# Altium schematic symbol library Schlib.SchLib: 7 symbols
Pins are listed as number, name and electrical type; pins without a type are passive.

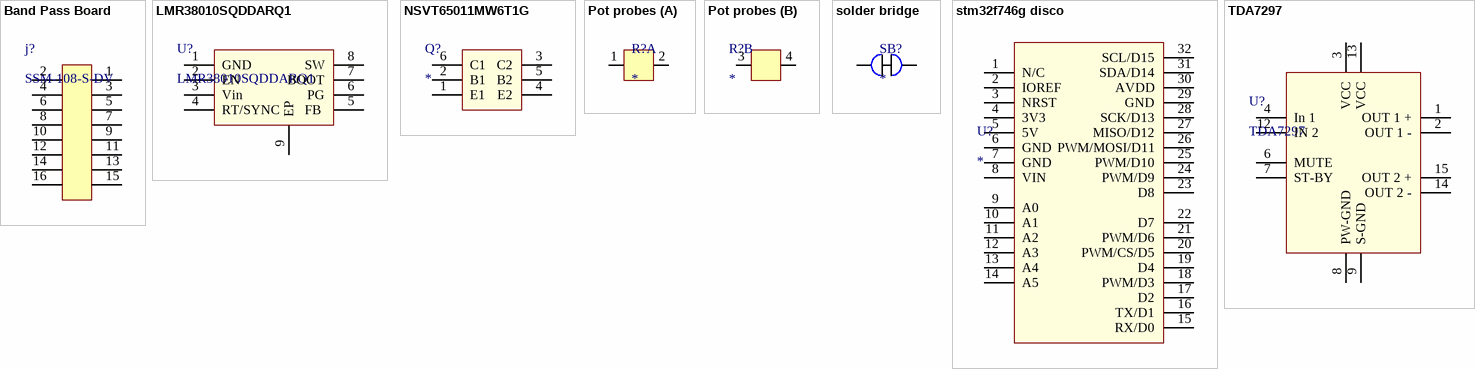
[diagram p0: symbols Band Pass Board to TDA7297]

## Band Pass Board
designator j?, comment SSM-108-S-DV
footprint Band Pass Board
pins: 1 K, 2 K, 3 K, 4 K, 5 K, 6 K, 7 K, 8 K, 9 K, 10 K, 11 K, 12 K, 13 K, 14 K, 15, 16

## LMR38010SQDDARQ1
designator U?
footprint LMR38010SQDDARQ1
pins: 1 GND, 2 EN, 3 Vin, 4 RT/SYNC, 5 FB , 6 PG, 7 BOOT, 8 SW, 9 EP

## NSVT65011MW6T1G
designator Q?
footprint NSVT65011MW6T1G
pins: 1 E1, 2 B1, 3 C2, 4 E2, 5 B2, 6 C1

## Pot probes
designator R?
footprint Pot probe
part A pins: 1, 2
part B pins: 3, 4

## solder bridge
designator SB?
footprint solder bridge
pins: 1, 2

## stm32f746g disco
designator U?
footprint stm32f746g disco
pins: 1 N/C, 2 IOREF, 3 NRST, 4 3V3, 5 5V, 6 GND, 7 GND, 8 VIN, 9 A0, 10 A1, 11 A2, 12 A3, 13 A4, 14 A5, 15 RX/D0, 16 TX/D1, 17 D2, 18 PWM/D3, 19 D4, 20 PWM/CS/D5, 21 PWM/D6, 22 D7, 23 D8, 24 PWM/D9, 25 PWM/D10, 26 PWM/MOSI/D11, 27 MISO/D12, 28 SCK/D13, 29 GND, 30 AVDD, 31 SDA/D14, 32 SCL/D15

## TDA7297
designator U?
footprint TDA7297
pins: 1 OUT 1 +, 2 OUT 1 -, 3 VCC, 4 In 1, 6 MUTE, 7 ST-BY, 8 PW-GND, 9 S-GND, 12 IN 2, 13 VCC, 14 OUT 2 -, 15 OUT 2 +